# Altium schematic symbol library Schlib2.SchLib: 92 symbols (part 3 of 4)
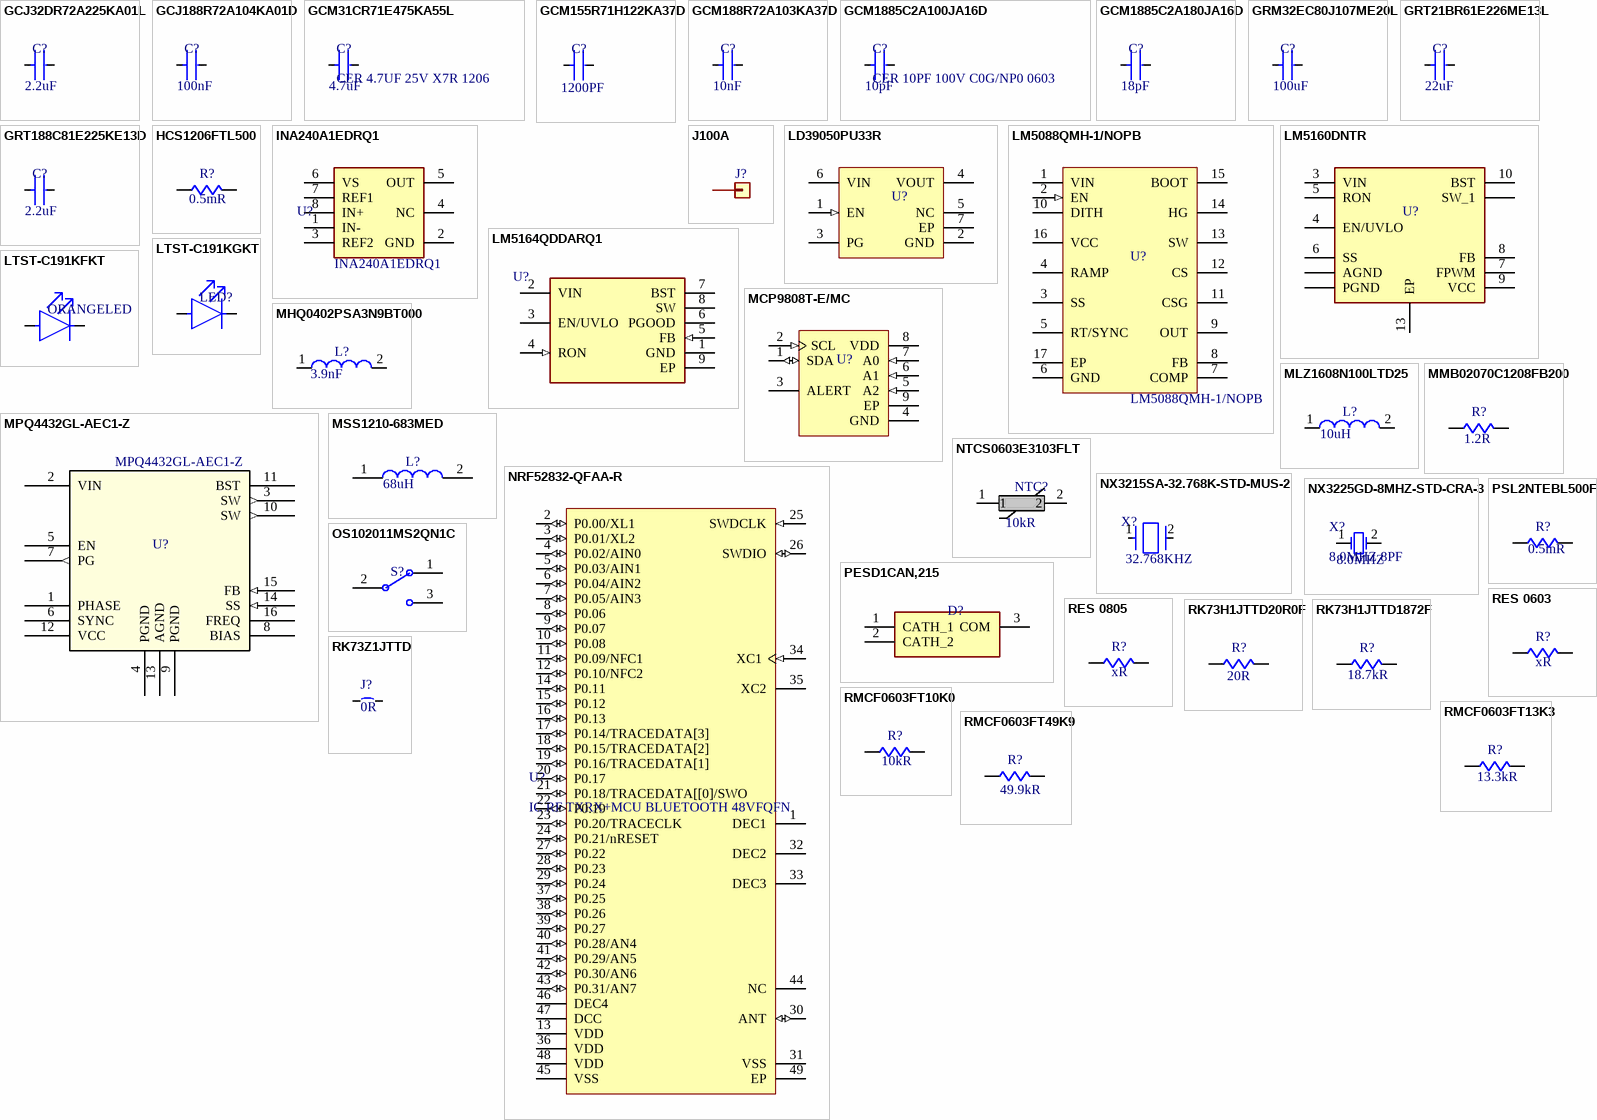
[diagram p4: symbols GCJ32DR72A225KA01L to RMCF0603FT49K9]

## LTST-C191KGKT
designator LED?, comment LED GREEN CLEAR SMD  (value not drawn)
Manufacturer: Vishay Lite-On; Manufacturer Part Number: LTST-C191KGKT; Description: Single Color LED, Ultra Bright Green, Water Clear, 1.1mm; Shape: Rectangular; Lens Style: WATER CLEAR; Forward Current: 30mA; Luminous Intensity-Nom: 35mcd; Channels: 1; Optoelectronic Device Type: SINGLE COLOR LED; Viewing Angle: 130°; Forward Voltage: 2.4V; Reverse Voltage-Max: 5V; Overall Height: 0.55mm; Supplier: Digi-Key; Supplier Part Number: 160-1446-1-ND; RoHS: Yes; Category: Uncategorized; Stock: 1696489; Pricing: 1=0.26, 10=0.141, 100=0.0656, 500=0.0606, 1000=0.04747, 2000=0.04646 (USD); Mounting Technology: Surface Mount; Pins: 2; Color: Green; Color@wavelength: Green; Terminal Finish: Tin; Min Operating Temperature: -55°C; Max Operating Temperature: 85°C; Packaging: Tape and Reel; JESD-609 Code: e3; Size: 1.1mm; Terminal Pitch: 1.5mm; Reach SVHC Compliant: Yes; RoHS Compliant: Yes; ComponentLink1URL: https://datasheet.ciiva.com:443/pdfs/VipMasterIC/IC/LITE/LITE-S-A0003156116/LITE-S-A0003156116-1.pdf?src-supplier=IHS+Markit; ComponentLink1Description: https://datasheet.ciiva.com:443/pdfs/VipMasterIC/IC/LITE/LITE-S-A0003156116/LITE-S-A0003156116-1.pdf?src-supplier=IHS+Markit; ComponentLink2URL: https://datasheet.ciiva.com/2109/ltst-c191kgkt-2109973.pdf?src-supplier=Digi-Key; ComponentLink2Description: https://datasheet.ciiva.com/2109/ltst-c191kgkt-2109973.pdf?src-supplier=Digi-Key
footprint FP-LTST-C191KGKT-MFG
pins: 1 C, 2 A

## MCP9808T-E/MC
designator U?, comment Temperature Sensor Digital, Local -40°C ~ 125°C 12 b 8-DFN (2x3)  (value not drawn)
Board Connector, 9 Contact(s), 2 Row(s), Male, Straight, 0.05 inch Pitch, Surface Mount Terminal, Locking; Manufacturer: Microchip; Manufacturer Part Number: MCP9808T-E/MC; Package Body Material: Plastic; Package Shape/Style: Rectangular; Accuracy-Max (Cel): 1°C; Number of Bits: 16; Operating Current-Max: 200uA; Output Interface Type: 2-Wire; Power Supplies: 3/5V; Sensor Type: TEMPERATURE SENSOR,SWITCH/DIGITAL OUTPUT,SERIAL; Max Supply Voltage: 5.5V; Min Supply Voltage: 2.7V; Body Breadth: 2inch; Body Height: 0.9mm; Body Length or Diameter: 3mm; Supplier: Digi-Key; Supplier Part Number: MCP9808T-E/MCCT-ND; RoHS: Yes; Category: Temperature and Humidity Sensors; Stock: 21735; Pricing: 1=1.4, 25=1.17, 100=1.05 (USD); Mounting Technology: Surface Mount; Pins: 8; Housing Material: Plastic; Terminal Finish: Tin; Min Operating Temperature: -40°C; Max Operating Temperature: 125°C; JESD-609 Code: e3; Termination: Solder; RoHS Compliant: Yes; Reach SVHC Compliant: Yes; ComponentLink1URL: https://datasheet.ciiva.com:443/pdfs/VipMasterIC/IC/MCHP/MCHP-S-A0005985417/MCHP-S-A0005985417-1.pdf?src-supplier=IHS+Markit; ComponentLink1Description: https://datasheet.ciiva.com:443/pdfs/VipMasterIC/IC/MCHP/MCHP-S-A0005985417/MCHP-S-A0005985417-1.pdf?src-supplier=IHS+Markit; ComponentLink2URL: https://datasheet.ciiva.com/15098/getdatasheetpartid-508406-15098545.pdf?src-supplier=Verical; ComponentLink2Description: https://datasheet.ciiva.com/15098/getdatasheetpartid-508406-15098545.pdf?src-supplier=Verical; ComponentLink3URL: https://datasheet.ciiva.com/2002/25095a-2002857.pdf?src-supplier=Digi-Key; ComponentLink3Description: https://datasheet.ciiva.com/2002/25095a-2002857.pdf?src-supplier=Digi-Key; ComponentLink4URL: https://datasheet.ciiva.com/14152/mcp9808-eng-tds-14152155.pdf?src-supplier=Distrelec; ComponentLink4Description: https://datasheet.ciiva.com/14152/mcp9808-eng-tds-14152155.pdf?src-supplier=Distrelec; ComponentLink5URL: https://datasheet.ciiva.com/1514/1522173-1514018.pdf?src-supplier=Element14; ComponentLink5Description: https://datasheet.ciiva.com/1514/1522173-1514018.pdf?src-supplier=Element14; ComponentLink6URL: https://datasheet.ciiva.com:443/pdfs/VipMasterIC/IC/SAMI/SAMI-S-A0006911451/SAMI-S-A0006911451-1.pdf?src-supplier=IHS+Markit; ComponentLink6Description: https://datasheet.ciiva.com:443/pdfs/VipMasterIC/IC/SAMI/SAMI-S-A0006911451/SAMI-S-A0006911451-1.pdf?src-supplier=IHS+Markit; ComponentLink7URL: http://www.farnell.com/datasheets/2570365.pdf?src-supplier=Farnell; ComponentLink7Description: http://www.farnell.com/datasheets/2570365.pdf?src-supplier=Farnell; ComponentLink8URL: http://suddendocs.samtec.com/prints/ftsh-1xx-xx-xxx-dv-xxx-xxx-mkt.pdf?src-supplier=Digi-Key; ComponentLink8Description: http://suddendocs.samtec.com/prints/ftsh-1xx-xx-xxx-dv-xxx-xxx-mkt.pdf?src-supplier=Digi-Key; ComponentLink9URL: http://www.farnell.com/datasheets/2570365.pdf?src-supplier=Element14; ComponentLink9Description: http://www.farnell.com/datasheets/2570365.pdf?src-supplier=Element14; ComponentLink10URL: http://www.farnell.com/datasheets/2570365.pdf?src-supplier=Newark; ComponentLink10Description: http://www.farnell.com/datasheets/2570365.pdf?src-supplier=Newark
footprint MCHP-DFN-MC8_V (SON, 8-Leads, Body 3x2mm, Pitch 0.5mm, Thermal Pad 1.45x1.75mm)
pins: 1 SDA (io) "Serial Data Line", 2 SCL (in) "Serial Clock Line", 3 ALERT (oc) "Temperature Alert Output", 4 GND (power) "Ground", 5 A2 (in) "Slave Address", 6 A1 (in) "Slave Address", 7 A0 (in) "Slave Address", 8 VDD (power) "Power Pin", 9 EP (power) "Exposed Thermal Pad (EP); must be connected to GND"

## MHQ0402PSA3N9BT000
designator L?, comment value 3.9nF  (hidden comment: FIXED IND 3.9NH 200MA 750MOHM SM)
Manufacturer: TDK; Manufacturer Part Number: MHQ0402PSA3N9BT000; Inductor Type: GENERAL PURPOSE INDUCTOR; Supplier: Digi-Key; Supplier Part Number: 445-174653-1-ND; RoHS: Yes; Category: Fixed Inductors; Stock: 16837; Pricing: 1=0.1, 10=0.086, 25=0.0768, 50=0.0652, 100=0.0576, 250=0.05276, 500=0.04798, 1000=0.0403, 2500=0.03454 (USD); Reach SVHC Compliant: Yes; RoHS Compliant: Yes; ComponentLink1URL: https://datasheet.ciiva.com:443/pdfs/VipMasterIC/IC/TDKC/TDKC-S-A0007109881/TDKC-S-A0007109881-1.pdf?src-supplier=IHS+Markit; ComponentLink1Description: https://datasheet.ciiva.com:443/pdfs/VipMasterIC/IC/TDKC/TDKC-S-A0007109881/TDKC-S-A0007109881-1.pdf?src-supplier=IHS+Markit; ComponentLink2URL: https://product.tdk.com/info/en/catalog/datasheets/inductor_commercial_high-frequency_mhq0402psa_en.pdf?src-supplier=Digi-Key; ComponentLink2Description: https://product.tdk.com/info/en/catalog/datasheets/inductor_commercial_high-frequency_mhq0402psa_en.pdf?src-supplier=Digi-Key
pins: 1, 2

## MLZ1608N100LTD25
designator L?, comment value 10uH  (hidden comment: FIXED IND 10UH 300MA 600MOHM SMD)
Manufacturer: TDK; Manufacturer Part Number: MLZ1608N100LTD25; Inductor Type: GENERAL PURPOSE INDUCTOR; Supplier: Digi-Key; Supplier Part Number: 445-17067-1-ND; RoHS: Yes; Category: Fixed Inductors; Stock: 118754; Pricing: 1=0.2, 10=0.177, 25=0.1576, 50=0.134, 100=0.1182, 250=0.10832, 500=0.09848, 1000=0.08272 (USD); Reach SVHC Compliant: Yes; RoHS Compliant: Yes; ComponentLink1URL: https://datasheet.ciiva.com:443/pdfs/VipMasterIC/IC/TDKC/TDKC-S-A0007713921/TDKC-S-A0007713921-1.pdf?src-supplier=IHS+Markit; ComponentLink1Description: https://datasheet.ciiva.com:443/pdfs/VipMasterIC/IC/TDKC/TDKC-S-A0007713921/TDKC-S-A0007713921-1.pdf?src-supplier=IHS+Markit; ComponentLink2URL: http://www.mouser.com/ds/2/400/nductor_commercial_decoupling_mlz1608_en-837720.pdf?src-supplier=Mouser; ComponentLink2Description: http://www.mouser.com/ds/2/400/nductor_commercial_decoupling_mlz1608_en-837720.pdf?src-supplier=Mouser; ComponentLink3URL: https://product.tdk.com/info/en/catalog/datasheets/inductor_automotive_decoupling_mlz1608_en.pdf?src-supplier=Digi-Key; ComponentLink3Description: https://product.tdk.com/info/en/catalog/datasheets/inductor_automotive_decoupling_mlz1608_en.pdf?src-supplier=Digi-Key; ComponentLink4URL: http://product.tdk.com/inductor/ind/en/documents/inductor_automotive_decoupling_mlz_en.pdf?src-supplier=Digi-Key; ComponentLink4Description: http://product.tdk.com/inductor/ind/en/documents/inductor_automotive_decoupling_mlz_en.pdf?src-supplier=Digi-Key
footprint FP-MLZ1608-IPC_C
pins: 1, 2

## MMB02070C1208FB200
designator R?, comment value 1.2R  (hidden comment: RES SMD 1.2 OHM 1% 1W 0207)
Manufacturer: Vishay; Manufacturer Part Number: MMB02070C1208FB200; Power: 400mW; Rated Temperature: 70°C; Temperature Coefficient: 50ppm/°C; Working Voltage: 300V; Package Diameter: 2.2mm; Package Length: 5.8mm; Reference Standard: AEC-Q200; Supplier: Digi-Key; Supplier Part Number: 749-MMB02070C1208FB200CT-ND; RoHS: Yes; Category: Chip SMD Resistors; Stock: 3580; Pricing: 1=0.57, 10=0.41, 100=0.2129, 500=0.14742, 1000=0.11466 (USD); Mounting Technology: Surface Mount; Pins: 2; Package Shape: Cylindrical; Case/Package: 2309; Terminal Finish: Nickel; Min Operating Temperature: -55°C; Max Operating Temperature: 125°C; Tolerance: 1%; JESD-609 Code: e3; Resistor Type: FIXED RESISTOR; Construction: Cylindrical; Package Style: MELFMeter; Packaging: Tape and Reel; Technology: THIN FILM; Termination: Wraparound; Reach SVHC Compliant: Yes; RoHS Compliant: Yes; ComponentLink1URL: https://datasheet.ciiva.com:443/pdfs/VipMasterIC/IC/VISH/VISH-S-A0004853152/VISH-S-A0004853152-1.pdf?src-supplier=IHS+Markit; ComponentLink1Description: https://datasheet.ciiva.com:443/pdfs/VipMasterIC/IC/VISH/VISH-S-A0004853152/VISH-S-A0004853152-1.pdf?src-supplier=IHS+Markit; ComponentLink2URL: https://datasheet.ciiva.com/11811/0900766b80d81c43-11811863.pdf?src-supplier=Rs; ComponentLink2Description: https://datasheet.ciiva.com/11811/0900766b80d81c43-11811863.pdf?src-supplier=Rs; ComponentLink3URL: https://datasheet.ciiva.com/26316/nbmma0204-mmb0207-e-26316346.pdf?src-supplier=Distrelec; ComponentLink3Description: https://datasheet.ciiva.com/26316/nbmma0204-mmb0207-e-26316346.pdf?src-supplier=Distrelec; ComponentLink4URL: https://datasheet.ciiva.com/7861/1696496-7861166.pdf?src-supplier=Element14; ComponentLink4Description: https://datasheet.ciiva.com/7861/1696496-7861166.pdf?src-supplier=Element14; ComponentLink5URL: https://datasheet.ciiva.com/7861/1696496-7861167.pdf?src-supplier=Element14; ComponentLink5Description: https://datasheet.ciiva.com/7861/1696496-7861167.pdf?src-supplier=Element14
footprint MMB0207_VIS-M
pins: 1, 2

## MPQ4432GL-AEC1-Z
designator U?, comment Manufacturer Part Number: MPQ4432GL-AEC1-Z  (hidden comment: IC REG 36V 2.2A LOW AUTO GRADE)
Switching Regulator IC REG 36V 2.2A LOW AUTO GRADE; Manufacturer: Monolithic Power Systems; Supplier: Digi-Key; Supplier Part Number: 1589-1796-1-ND; RoHS: Yes; Category: Voltage Regulators - Switching; Stock: 15000; Pricing: 1=4.19, 10=3.759, 25=3.5536, 100=3.0798, 250=2.92188, 500=2.6218, 1000=2.235 (USD); Throw Configuration: SWITCHING REGULATOR; Reach SVHC Compliant: Yes; RoHS Compliant: Yes; ComponentLink1URL: https://datasheet.ciiva.com:443/pdfs/VipMasterIC/IC/MONO/MONO-S-A0008952065/MONO-S-A0008952065-1.pdf?src-supplier=IHS+Markit; ComponentLink1Description: https://datasheet.ciiva.com:443/pdfs/VipMasterIC/IC/MONO/MONO-S-A0008952065/MONO-S-A0008952065-1.pdf?src-supplier=IHS+Markit; ComponentLink2URL: https://www.monolithicpower.com/pub/media/document/m/p/mpq4432_r1.01.pdf?src-supplier=Digi-Key; ComponentLink2Description: https://www.monolithicpower.com/pub/media/document/m/p/mpq4432_r1.01.pdf?src-supplier=Digi-Key
footprint QFN-3x4_MPQ4432_MNP
pins: 1 PHASE, 2 VIN (power), 3 SW (out), 4 PGND (power), 5 EN, 6 SYNC, 7 PG (out), 8 BIAS (power), 9 PGND (power), 10 SW (out), 11 BST (power), 12 VCC (power), 13 AGND (power), 14 SS (in), 15 FB (in), 16 FREQ

## MSS1210-683MED
designator L?, comment Inductance-Nom (L): 68uH  (hidden comment: 68uH Shld 20% 4.3A 84mOhms AECQ2)
Manufacturer: Coilcraft; Manufacturer Part Number: MSS1210-683MED; Manufacturer Series: MSS1210; Core Material: Ferrite; Case/Size Code: 4848; DC Resistance (DCR): 74mR; Inductor Type: GENERAL PURPOSE INDUCTOR; Max Current Rating: 4.9A; Self Resonant Frequency: 4.5MHz; Shielding: Shielded; Package Height: 10mm; Package Length: 12.3mm; Supplier: Mouser; Supplier Part Number: 994-MSS1210-683MED; RoHS: Yes; Category: Fixed Inductors; Stock: 12047; Pricing: 1=3.74, 10=3.74, 50=3.74, 100=3.74, 1000=2.63, 10000=2.63 (USD); Terminal Finish: Nickel; Min Operating Temperature: -40°C; Max Operating Temperature: 85°C; Tolerance: 20%; JESD-609 Code: e3; Construction: Shielded; Package Style: SMTMeter; Packaging: Tape and Reel; Series: MSS1210; Package Width: 12.3mm; Reach SVHC Compliant: Yes; RoHS Compliant: Yes; ComponentLink1URL: https://datasheet.ciiva.com:443/pdfs/VipMasterIC/IC/COLC/COLC-S-A0002292137/COLC-S-A0002292137-1.pdf?src-supplier=IHS+Markit; ComponentLink1Description: https://datasheet.ciiva.com:443/pdfs/VipMasterIC/IC/COLC/COLC-S-A0002292137/COLC-S-A0002292137-1.pdf?src-supplier=IHS+Markit; ComponentLink2URL: https://datasheet.ciiva.com/13283/mss1210-270677-13283815.pdf?src-supplier=Mouser; ComponentLink2Description: https://datasheet.ciiva.com/13283/mss1210-270677-13283815.pdf?src-supplier=Mouser; ComponentLink3URL: https://datasheet.ciiva.com/36858/1681953-36858617.pdf?src-supplier=Element14; ComponentLink3Description: https://datasheet.ciiva.com/36858/1681953-36858617.pdf?src-supplier=Element14; ComponentLink4URL: https://datasheet.ciiva.com/36858/1681953-36858621.pdf?src-supplier=Element14; ComponentLink4Description: https://datasheet.ciiva.com/36858/1681953-36858621.pdf?src-supplier=Element14
pins: 1, 2

## NRF52832-QFAA-R
designator U?, comment IC RF TXRX+MCU BLUETOOTH 48VFQFN
Manufacturer: Nordic Semiconductor; Manufacturer Part Number: NRF52832-QFAA-R; Channels: 1; Nominal Supply Voltage: 3V; Telecom IC Type: TELECOM CIRCUIT; Supplier: Digi-Key; Supplier Part Number: 4823-NRF52832-QFAA-RCT-ND; RoHS: Yes; Category: RF Receivers, Transceivers; Stock: 373904; Pricing: 1=5.81, 10=5.189, 25=4.67, 100=4.2547, 250=3.83964, 500=3.4453, 1000=2.90567 (USD); Case/Package: HVQCCN; Pins: 48; Package Shape: Square; Min Operating Temperature: -40°C; Max Operating Temperature: 85°C; JESD-30 Code: S-XQCC-N48; Package Style: CHIP CARRIER, HEAT SINK/SLUG, VERY THIN PROFILEMeter; Surface Mount: Yes; Terminal Form: No Lead; Terminal Position: QUAD; Length: 6mm; Width: 6mm; Height - Seated (Max): 0.95mm; Terminal Pitch: 0.4mm; Temperature Grade: INDUSTRIAL; Reach SVHC Compliant: Yes; RoHS Compliant: Yes; ComponentLink1URL: https://datasheet.ciiva.com:443/pdfs/VipMasterIC/IC/NRSA/NRSA-S-A0002414264/NRSA-S-A0002414264-1.pdf?src-supplier=IHS+Markit; ComponentLink1Description: https://datasheet.ciiva.com:443/pdfs/VipMasterIC/IC/NRSA/NRSA-S-A0002414264/NRSA-S-A0002414264-1.pdf?src-supplier=IHS+Markit; ComponentLink2URL: http://www.mouser.com/ds/2/297/nRF52832%20Product%20Brief%20v1.2-890472.pdf?src-supplier=Mouser; ComponentLink2Description: http://www.mouser.com/ds/2/297/nRF52832%20Product%20Brief%20v1.2-890472.pdf?src-supplier=Mouser; ComponentLink3URL: http://infocenter.nordicsemi.com/pdf/nRF52832_PB_v1.7.pdf?src-supplier=Digi-Key; ComponentLink3Description: http://infocenter.nordicsemi.com/pdf/nRF52832_PB_v1.7.pdf?src-supplier=Digi-Key; ComponentLink4URL: http://infocenter.nordicsemi.com/pdf/nRF52832_PS_v1.4.pdf?src-supplier=Digi-Key; ComponentLink4Description: http://infocenter.nordicsemi.com/pdf/nRF52832_PS_v1.4.pdf?src-supplier=Digi-Key
pins: 1 DEC1 "Power supply decoupling.", 2 P0.00/XL1 (io), 3 P0.01/XL2 (io), 4 P0.02/AIN0 (io), 5 P0.03/AIN1 (io), 6 P0.04/AIN2 (io), 7 P0.05/AIN3 (io), 8 P0.06 (io) "General purpose I/O pin.", 9 P0.07 (io) "General purpose I/O pin.", 10 P0.08 (io) "General purpose I/O pin.", 11 P0.09/NFC1 (io), 12 P0.10/NFC2 (io), 13 VDD (power) "Power-supply pin.", 14 P0.11 (io) "General purpose I/O pin.", 15 P0.12 (io) "General purpose I/O pin.", 16 P0.13 (io) "General purpose I/O pin.", 17 P0.14/TRACEDATA[3] (io), 18 P0.15/TRACEDATA[2] (io), 19 P0.16/TRACEDATA[1] (io), 20 P0.17 (io) "General purpose I/O pin", 21 P0.18/TRACEDATA[[0]/SWO (io), 22 P0.19 (io) "General purpose I/O pin", 23 P0.20/TRACECLK (io), 24 P0.21/nRESET (io), 25 SWDCLK (in) "Serial Wire Debug clock input for debug and programming.", 26 SWDIO (io) "Serial Wire Debug I/O for debug and programming.", 27 P0.22 (io) "General purpose I/O pin", 28 P0.23 (io) "General purpose I/O pin", 29 P0.24 (io) "General purpose I/O pin", 30 ANT (io) "Single-ended radio antenna connection.", 31 VSS (power) "Ground pin (Radio supply).", 32 DEC2 "1V3 regulator supply decoupling", 33 DEC3 "Power supply decoupling.", 34 XC1 (in) "Connection for 32 MHz crystal.", 35 XC2 "Connection for 32 MHz crystal.", 36 VDD (power) "Power-supply pin.", 37 P0.25 (io) "General purpose I/O pin", 38 P0.26 (io) "General purpose I/O pin", 39 P0.27 (io) "General purpose I/O pin", 40 P0.28/AN4 (io), 41 P0.29/AN5 (io), 42 P0.30/AN6 (io), 43 P0.31/AN7 (io), 44 NC "No connect pin. Leave unconnected.", 45 VSS (power) "Ground Pin.", 46 DEC4 "1V3 regulator supply decoupling.", 47 DCC (power) "DC/DC regulator output pin", 48 VDD (power) "Power-supply pin.", 49 EP (power) "Ground pad."

## NTCS0603E3103FLT
designator NTC?, comment value 10kR  (hidden comment: NTC Thermistor 10k 0603 (1608 Metric))
Manufacturer: Vishay BCcomponents; Manufacturer Part Number: NTCS0603E3103FLT; Tolerance: 1%; Power: 125mW; Rated Temperature: 25°C; Thermistor Application: OVERLOAD PROTECTION; Supplier: Digi-Key; Supplier Part Number: BC2737CT-ND; RoHS: No; Category: Thermistors; Stock: 145210; Pricing: 1=1.08, 5=1.024, 10=0.892, 25=0.7832, 50=0.6506, 100=0.5543, 500=0.48198, 1000=0.42173 (USD); Mounting Technology: Surface Mount; Pins: 2; Package Shape: Rectangular; Terminal Finish: Tin; Min Operating Temperature: -40°C; Max Operating Temperature: 150°C; JESD-609 Code: e3; Packaging: Tape and Reel; Termination: Wraparound; Resistor Type: NTC THERMISTOR; Manufacturer Series: NTCS0603E3103FLT; Terminal Placement: Dual Ended; ComponentLink1URL: https://datasheet.ciiva.com:443/pdfs/VipMasterIC/IC/BEYS/BEYSS04817/BEYSS04817-1.pdf?src-supplier=IHS+Markit; ComponentLink1Description: https://datasheet.ciiva.com:443/pdfs/VipMasterIC/IC/BEYS/BEYSS04817/BEYSS04817-1.pdf?src-supplier=IHS+Markit; ComponentLink2URL: https://datasheet.ciiva.com/2848/ntcs0603-2848830.pdf?src-supplier=Digi-Key; ComponentLink2Description: https://datasheet.ciiva.com/2848/ntcs0603-2848830.pdf?src-supplier=Digi-Key; ComponentLink3URL: https://datasheet.ciiva.com/2848/ntcs0603-2848831.pdf?src-supplier=Digi-Key; ComponentLink3Description: https://datasheet.ciiva.com/2848/ntcs0603-2848831.pdf?src-supplier=Digi-Key; ComponentLink4URL: https://datasheet.ciiva.com/2848/ntcs0603-2848829.pdf?src-supplier=Digi-Key; ComponentLink4Description: https://datasheet.ciiva.com/2848/ntcs0603-2848829.pdf?src-supplier=Digi-Key
footprint NTCS0603_VIS
pins: 1, 2

## NX3215SA-32.768K-STD-MUS-2
designator X?, comment Operating Frequency-Nom: 32.768KHZ  (hidden comment: 32.7680KHZ 12.5PF SMD)
Manufacturer: NDK; Manufacturer Part Number: NX3215SA-32.768K-STD-MUS-2; Crystal/Resonator Type: PARALLEL - FUNDAMENTAL; Drive Level: 0.1uW; Frequency Stability: 0.04%; Frequency Tolerance: 20ppm; ESR: 80kR; Supplier: Digi-Key; Supplier Part Number: 644-1159-1-ND; RoHS: Yes; Category: Crystals; Stock: 215942; Pricing: 1=0.72, 10=0.601, 50=0.5408, 100=0.4808, 500=0.45672, 1000=0.38461 (USD); Mounting Technology: Surface Mount; Min Operating Temperature: -40°C; Max Operating Temperature: 125°C; Load Capacitance: 12.5pF; Reach SVHC Compliant: Yes; RoHS Compliant: Yes; ComponentLink1URL: https://datasheet.ciiva.com:443/pdfs/VipMasterIC/IC/NDKC/NDKC-S-A0010064642/NDKC-S-A0010064682-1.pdf?src-supplier=IHS+Markit; ComponentLink1Description: https://datasheet.ciiva.com:443/pdfs/VipMasterIC/IC/NDKC/NDKC-S-A0010064642/NDKC-S-A0010064682-1.pdf?src-supplier=IHS+Markit; ComponentLink2URL: https://datasheet.ciiva.com/858/c-nx3215sa-std-mus-2-e-858632.pdf?src-supplier=Digi-Key; ComponentLink2Description: https://datasheet.ciiva.com/858/c-nx3215sa-std-mus-2-e-858632.pdf?src-supplier=Digi-Key
footprint FP-NX3215SA-MFG
pins: 1, 2

## NX3225GD-8MHZ-STD-CRA-3
designator X?, comment 8.0MHZ 8PF  value 8.0MHZ
Manufacturer: NDK; Manufacturer Part Number: NX3225GD-8MHZ-STD-CRA-3; Supplier: Digi-Key; Supplier Part Number: 644-1178-1-ND; RoHS: Yes; Category: Crystals; Stock: 46750; Pricing: 1=0.87, 10=0.767, 50=0.7166, 100=0.6333, 500=0.59994, 1000=0.49995 (USD); ComponentLink1URL: https://datasheet.ciiva.com/6732/c-nx3225gd-std-cra-3-e-6732944.pdf?src-supplier=Digi-Key; ComponentLink1Description: https://datasheet.ciiva.com/6732/c-nx3225gd-std-cra-3-e-6732944.pdf?src-supplier=Digi-Key
footprint NDK-NX3225GD-8MHZ-STD-CRA-3_V (SMD, 2-Leads, Body 3.2x2.5mm)
pins: 1, 2

## OS102011MS2QN1C
designator S?, comment SLIDE SWITCH SPDT T/H ON-ON BBM  (value not drawn)
Manufacturer: ITT C&K; Manufacturer Part Number: OS102011MS2QN1C; Actuator Material: Polyoxymethylene; Actuator Color: Black; Center Contact Plating: Silver; End Contact Material: Copper Alloy; Contact Current(DC)-Max: 100mA; Contact DC Max Rating R Load: .1A@12VDC; Contact Resistance: 0.02mR; Contact Voltage(DC)-Max: 12V; Dielectric Withstand Volts: 500VACV; Electrical Life: 10000Cycles; Insulation Resistance: 100MR; Number of Positions: 2; PCB Hole Count: 5; Switch Action: LATCHED; Actuator Length: 0.157inch; Body Breadth: 4.3inch; Body Height: 4.7mm; Body Length or Diameter: 8.6mm; Supplier: Digi-Key; Supplier Part Number: CKN12284-ND; RoHS: Yes; Category: Slide Switches; Stock: 76323; Pricing: 1=0.61, 10=0.586, 25=0.5644, 100=0.4886, 250=0.44516, 500=0.41258, 1000=0.36916, 2500=0.34961, 5000=0.32355 (USD); Mounting Technology: Through Hole; Contact Material: Brass; Insulation Material: Phenolic; Terminal Finish: Gold; Terminal Material: Brass; Min Operating Temperature: -10°C; Max Operating Temperature: 70°C; JESD-609 Code: e4; Actuator Type: SLIDE; Contact Function: On-On; Packaging: Bulk; Switch Function: SPDT; Switch Type: Slide Switch; Termination: Solder; Reach SVHC Compliant: Yes; RoHS Compliant: Yes; ComponentLink1URL: https://datasheet.ciiva.com:443/pdfs/VipMasterIC/IC/CKCI/CKCI-S-A0002822563/CKCI-S-A0002822563-1.pdf?src-supplier=IHS+Markit; ComponentLink1Description: https://datasheet.ciiva.com:443/pdfs/VipMasterIC/IC/CKCI/CKCI-S-A0002822563/CKCI-S-A0002822563-1.pdf?src-supplier=IHS+Markit; ComponentLink2URL: https://datasheet.ciiva.com/46420/1839844-46420506.pdf?src-supplier=Element14; ComponentLink2Description: https://datasheet.ciiva.com/46420/1839844-46420506.pdf?src-supplier=Element14; ComponentLink3URL: https://datasheet.ciiva.com/18207/getdatasheetpartid-332577-18207383.pdf?src-supplier=Verical; ComponentLink3Description: https://datasheet.ciiva.com/18207/getdatasheetpartid-332577-18207383.pdf?src-supplier=Verical; ComponentLink4URL: https://datasheet.ciiva.com/8626/os-19jan15-8626502.pdf?src-supplier=Avnet; ComponentLink4Description: https://datasheet.ciiva.com/8626/os-19jan15-8626502.pdf?src-supplier=Avnet
footprint OS102011MS2QN1C
pins: 1 NO, 2 COM, 3 NC

## PESD1CAN,215
designator D?, comment TVS DIODE 24VWM 70VC TO236AB  (value not drawn)
Trans Voltage Suppressor Diode, 200W, 24V V(RWM), Bidirectional, 2 Element, Silicon, TO-236AB; Manufacturer: Nexperia; Manufacturer Part Number: PESD1CAN,215; Package Body Material: Plastic; Max Breakdown Voltage: 30.3V; Min Breakdown Voltage: 25.4V; Number of Elements: 2; Time @ Peak Reflow Temperature-Max (s): 40s; Reference Standard: IEC-60134; Qualification Status: Not Qualified; Supplier: Digi-Key; Supplier Part Number: 1727-3817-1-ND; RoHS: Yes; Category: ESD and Circuit Protection ICs; Stock: 102526; Pricing: 1=0.45, 10=0.366, 100=0.2492, 500=0.18688, 1000=0.14016 (USD); Pins: 3; Diode Element Material: SILICON; Package Shape: Rectangular; Terminal Finish: Tin; Max Operating Temperature: 150°C; Polarity: Bidirectional; Diode Type: TRANS VOLTAGE SUPPRESSOR; JESD-30 Code: R-PDSO-G3; Non-rep Peak Rev Power Dis-Max: 200W; Package Style: SMALL OUTLINEMeter; Rep Pk Reverse Voltage-Max: 24V; Surface Mount: Yes; Technology: AVALANCHE; Terminal Form: Gull Wing; Terminal Position: DUAL; JESD-609 Code: e3; Moisture Sensitivity Level: 1; Peak Reflow Temperature (Cel): 260°C; Reach SVHC Compliant: Yes; RoHS Compliant: Yes; JEDEC-95 Code: TO-236AB; ComponentLink1URL: https://datasheet.ciiva.com:443/pdfs/VipMasterIC/IC/NEXP/NEXP-S-A0005722386/NEXP-S-A0005722386-1.pdf?src-supplier=IHS+Markit; ComponentLink1Description: https://datasheet.ciiva.com:443/pdfs/VipMasterIC/IC/NEXP/NEXP-S-A0005722386/NEXP-S-A0005722386-1.pdf?src-supplier=IHS+Markit; ComponentLink2URL: http://www.farnell.com/datasheets/109497.pdf?src-supplier=Farnell; ComponentLink2Description: http://www.farnell.com/datasheets/109497.pdf?src-supplier=Farnell; ComponentLink3URL: https://assets.nexperia.com/documents/data-sheet/PESD1CAN.pdf?src-supplier=Digi-Key; ComponentLink3Description: https://assets.nexperia.com/documents/data-sheet/PESD1CAN.pdf?src-supplier=Digi-Key; ComponentLink4URL: http://www.farnell.com/datasheets/109497.pdf?src-supplier=Newark; ComponentLink4Description: http://www.farnell.com/datasheets/109497.pdf?src-supplier=Newark
footprint SOT95P230X110-3N
pins: 1 CATH_1, 2 CATH_2, 3 COM

## PSL2NTEBL500F
designator R?, comment value 0.5mR  (hidden comment: RES 500 UOHM 1% 8W NONSTANDARD)
Manufacturer: KOA Speer; Manufacturer Part Number: PSL2NTEBL500F; Description: Fixed Resistor, Metal Strip, 8W, 0.0005ohm, 1% +/-Tol, 175ppm/Cel, Surface Mount, 2512; Rated Temperature: 75°C; Temperature Coefficient: 115ppm/°C; Package Height: 1.12mm; Package Length: 6.3mm; Package Width: 3.15mm; Reference Standard: AEC-Q200; Supplier: Digi-Key; Supplier Part Number: 2019-PSL2NTEBL500FCT-ND; RoHS: Yes; Category: Chip SMD Resistors; Stock: 28086; Pricing: 1=1.59, 10=1.409, 25=1.2952, 50=1.1816, 100=1.0226, 250=0.86356, 500=0.7272, 1000=0.60448 (USD); Mounting Technology: Surface Mount; Pins: 2; Case/Package: 2512; Min Operating Temperature: -65°C; Max Operating Temperature: 175°C; Tolerance: 1%; Resistor Type: FIXED RESISTOR; Construction: Rectangular; Package Style: SMTMeter; Packaging: Tape and Reel; Power: 8W; Termination: Gull Wing; Reach SVHC Compliant: Yes; RoHS Compliant: Yes; ComponentLink1URL: https://datasheet.ciiva.com:443/pdfs/VipMasterIC/IC/KOAS/KOAS-S-A0009586241/KOAS-S-A0009586241-1.pdf?src-supplier=IHS+Markit; ComponentLink1Description: https://datasheet.ciiva.com:443/pdfs/VipMasterIC/IC/KOAS/KOAS-S-A0009586241/KOAS-S-A0009586241-1.pdf?src-supplier=IHS+Markit
footprint FP-PSL2NTEBL500F-MFG
pins: 1, 2

## RES 0603
designator R?, comment value xR  (hidden comment: x)
footprint FP-RMCF0603-IPC_C
pins: 1, 2

## RES 0805
designator R?, comment value xR  (hidden comment: x)
footprint FP-CRCW0805-e3-IPC_C
pins: 1, 2

## RK73H1JTTD20R0F
designator R?, comment value 20R  (hidden comment: RES 20 OHM 1% 1/8W 0603)
Manufacturer: KOA Speer; Manufacturer Part Number: RK73H1JTTD20R0F; Additional Feature: PRECISION; Power: 125mW; Rated Temperature: 70°C; Temperature Coefficient: 100ppm/°C; Working Voltage: 75V; Package Height: 0.45mm; Package Length: 1.6mm; Package Width: 0.8mm; Reference Standard: AEC-Q200; Supplier: Digi-Key; Supplier Part Number: 2019-RK73H1JTTD20R0FCT-ND; RoHS: Yes; Category: Chip SMD Resistors; Stock: 455564; Pricing: 1=0.1, 10=0.025, 50=0.0136, 100=0.01, 500=0.0061, 1000=0.0045 (USD); Mounting Technology: Surface Mount; Pins: 2; Case/Package: 0603; Terminal Finish: Nickel; Min Operating Temperature: -55°C; Max Operating Temperature: 155°C; Tolerance: 1%; JESD-609 Code: e3; Resistor Type: FIXED RESISTOR; Construction: Rectangular; Package Style: SMTMeter; Packaging: Tape and Reel; Technology: METAL GLAZE/THICK FILM; Termination: Wraparound; Reach SVHC Compliant: Yes; RoHS Compliant: Yes; ComponentLink1URL: https://datasheet.ciiva.com:443/pdfs/VipMasterIC/IC/KOAS/KOAS-S-A0009586304/KOAS-S-A0009586304-1.pdf?src-supplier=IHS+Markit; ComponentLink1Description: https://datasheet.ciiva.com:443/pdfs/VipMasterIC/IC/KOAS/KOAS-S-A0009586304/KOAS-S-A0009586304-1.pdf?src-supplier=IHS+Markit; ComponentLink2URL: https://datasheet.ciiva.com/7773/549017-7773375.pdf?src-supplier=Element14; ComponentLink2Description: https://datasheet.ciiva.com/7773/549017-7773375.pdf?src-supplier=Element14; ComponentLink3URL: https://datasheet.ciiva.com/5556/rk73h-5556328.pdf?src-supplier=Mouser; ComponentLink3Description: https://datasheet.ciiva.com/5556/rk73h-5556328.pdf?src-supplier=Mouser; ComponentLink4URL: https://datasheet.ciiva.com/15159/getdatasheetpartid-68790-15159687.pdf?src-supplier=Verical; ComponentLink4Description: https://datasheet.ciiva.com/15159/getdatasheetpartid-68790-15159687.pdf?src-supplier=Verical
footprint FP-RK73Z1J-IPC_C
pins: 1, 2

## RK73H1JTTD1872F
designator R?, comment value 18.7kR  (hidden comment: RES 18.7K OHM 1% 1/10W 0603)
Manufacturer: KOA Speer; Manufacturer Part Number: RK73H1JTTD1872F; Additional Feature: PRECISION; Power: 100mW; Rated Temperature: 70°C; Temperature Coefficient: 100ppm/°C; Working Voltage: 75V; Package Height: 0.45mm; Package Length: 1.6mm; Package Width: 0.8mm; Reference Standard: AEC-Q200; Supplier: Digi-Key; Supplier Part Number: 2019-RK73H1JTTD1872FCT-ND; RoHS: Yes; Category: Chip SMD Resistors; Stock: 62447; Pricing: 1=0.1, 10=0.025, 50=0.0136, 100=0.01, 500=0.0061, 1000=0.0045 (USD); Mounting Technology: Surface Mount; Pins: 2; Case/Package: 0603; Terminal Finish: Nickel; Min Operating Temperature: -55°C; Max Operating Temperature: 155°C; Tolerance: 1%; JESD-609 Code: e3; Resistor Type: FIXED RESISTOR; Construction: Rectangular; Package Style: SMTMeter; Packaging: Tape and Reel; Technology: METAL GLAZE/THICK FILM; Termination: Wraparound; Reach SVHC Compliant: Yes; RoHS Compliant: Yes; ComponentLink1URL: https://datasheet.ciiva.com:443/pdfs/VipMasterIC/IC/KOAS/KOAS-S-A0009586304/KOAS-S-A0009586304-1.pdf?src-supplier=IHS+Markit; ComponentLink1Description: https://datasheet.ciiva.com:443/pdfs/VipMasterIC/IC/KOAS/KOAS-S-A0009586304/KOAS-S-A0009586304-1.pdf?src-supplier=IHS+Markit; ComponentLink2URL: https://datasheet.ciiva.com/3882/39733851s9852373n5146-3882825.pdf?src-supplier=Arrow+Electronics; ComponentLink2Description: https://datasheet.ciiva.com/3882/39733851s9852373n5146-3882825.pdf?src-supplier=Arrow+Electronics; ComponentLink3URL: https://datasheet.ciiva.com/5557/rk73h-5557260.pdf?src-supplier=Mouser; ComponentLink3Description: https://datasheet.ciiva.com/5557/rk73h-5557260.pdf?src-supplier=Mouser
footprint FP-RMCF0603-IPC_C
pins: 1, 2

## RK73Z1JTTD
designator J?, comment value 0R  (hidden comment: RES 0 OHM JUMPER 0603)
Manufacturer: KOA Speer; Manufacturer Part Number: RK73Z1JTTD; Rated Temperature: 70°C; Package Height: 0.45mm; Package Length: 1.6mm; Package Width: 0.8mm; Reference Standard: AEC-Q200; Supplier: Digi-Key; Supplier Part Number: 2019-RK73Z1JTTDCT-ND; RoHS: Yes; Category: Chip SMD Resistors; Stock: 8562065; Pricing: 1=0.1, 10=0.016, 50=0.0088, 100=0.0065, 500=0.00396, 1000=0.00292 (USD); Mounting Technology: Surface Mount; Pins: 2; Case/Package: 0603; Terminal Finish: Nickel; Min Operating Temperature: -55°C; Max Operating Temperature: 155°C; JESD-609 Code: e3; Resistor Type: FIXED RESISTOR; Construction: Rectangular; Package Style: SMTMeter; Packaging: Tape and Reel; Termination: Wraparound; Reach SVHC Compliant: Yes; RoHS Compliant: Yes; ComponentLink1URL: https://datasheet.ciiva.com:443/pdfs/VipMasterIC/IC/KOAS/KOAS-S-A0009586251/KOAS-S-A0009586308-1.pdf?src-supplier=IHS+Markit; ComponentLink1Description: https://datasheet.ciiva.com:443/pdfs/VipMasterIC/IC/KOAS/KOAS-S-A0009586251/KOAS-S-A0009586308-1.pdf?src-supplier=IHS+Markit; ComponentLink2URL: https://datasheet.ciiva.com/7816/549012-7816884.pdf?src-supplier=Element14; ComponentLink2Description: https://datasheet.ciiva.com/7816/549012-7816884.pdf?src-supplier=Element14; ComponentLink3URL: https://datasheet.ciiva.com/26914/getdatasheetpartid-123499-26914653.pdf?src-supplier=Verical; ComponentLink3Description: https://datasheet.ciiva.com/26914/getdatasheetpartid-123499-26914653.pdf?src-supplier=Verical
footprint FP-RK73Z1J-IPC_C
pins: 1, 2

## RMCF0603FT10K0
designator R?, comment value 10kR  (hidden comment: RES 10K OHM 1% 1/10W 0603)
Manufacturer: Stackpole Electronics; Manufacturer Part Number: RMCF0603FT10K0; Power: 100mW; Rated Temperature: 70°C; Temperature Coefficient: 100ppm/°C; Working Voltage: 75V; Package Height: 0.45mm; Package Length: 1.55mm; Package Width: 0.8mm; Reference Standard: AEC-Q200; Supplier: Digi-Key; Supplier Part Number: RMCF0603FT10K0CT-ND; RoHS: Yes; Category: Chip SMD Resistors; Stock: 10390822; Pricing: 1=0.1, 10=0.015, 50=0.009, 100=0.0075, 500=0.00498, 1000=0.00425 (USD); Mounting Technology: Surface Mount; Pins: 2; Package Shape: Rectangular; Case/Package: 0603; Terminal Finish: Nickel; Min Operating Temperature: -55°C; Max Operating Temperature: 155°C; Tolerance: 1%; JESD-609 Code: e3; Resistor Type: FIXED RESISTOR; Construction: Rectangular; Package Style: SMTMeter; Packaging: Tape and Reel; Technology: METAL GLAZE/THICK FILM; Termination: Wraparound; Reach SVHC Compliant: Yes; RoHS Compliant: Yes; ComponentLink1URL: https://datasheet.ciiva.com:443/pdfs/VipMasterIC/IC/SEIE/SEIE-S-A0009541969/SEIE-S-A0009541969-1.pdf?src-supplier=IHS+Markit; ComponentLink1Description: https://datasheet.ciiva.com:443/pdfs/VipMasterIC/IC/SEIE/SEIE-S-A0009541969/SEIE-S-A0009541969-1.pdf?src-supplier=IHS+Markit; ComponentLink2URL: http://components.arrow.com/part/dataview/43747082S6756917N1174?src-supplier=Arrow+Electronics; ComponentLink2Description: http://components.arrow.com/part/dataview/43747082S6756917N1174?src-supplier=Arrow+Electronics; ComponentLink3URL: https://www.seielect.com/catalog/SEI-RMCF_RMCP.pdf?src-supplier=Avnet; ComponentLink3Description: https://www.seielect.com/catalog/SEI-RMCF_RMCP.pdf?src-supplier=Avnet; ComponentLink4URL: http://www.seielect.com/catalog/sei-rmc.pdf?src-supplier=Future+Electronics; ComponentLink4Description: http://www.seielect.com/catalog/sei-rmc.pdf?src-supplier=Future+Electronics; ComponentLink5URL: https://www.verical.com/server-webapp/html/getDatasheet?partID=360913&src-supplier=Verical; ComponentLink5Description: https://www.verical.com/server-webapp/html/getDatasheet?partID=360913&src-supplier=Verical; ComponentLink6URL: https://www.seielect.com/catalog/sei-rmcf_rmcp.pdf?src-supplier=Digi-Key; ComponentLink6Description: https://www.seielect.com/catalog/sei-rmcf_rmcp.pdf?src-supplier=Digi-Key
footprint FP-RMCF0603-IPC_C
pins: 1, 2

## RMCF0603FT13K3
designator R?, comment value 13.3kR  (hidden comment: RES 13.3K OHM 1% 1/10W 0603)
Manufacturer: Stackpole Electronics; Manufacturer Part Number: RMCF0603FT13K3; Power: 100mW; Rated Temperature: 70°C; Temperature Coefficient: 100ppm/°C; Working Voltage: 75V; Package Height: 0.45mm; Package Length: 1.55mm; Package Width: 0.8mm; Reference Standard: AEC-Q200; Supplier: Digi-Key; Supplier Part Number: RMCF0603FT13K3CT-ND; RoHS: Yes; Category: Chip SMD Resistors; Stock: 235478; Pricing: 1=0.1, 10=0.015, 50=0.009, 100=0.0075, 500=0.00498, 1000=0.00425 (USD); Mounting Technology: Surface Mount; Pins: 2; Package Shape: Rectangular; Case/Package: 0603; Terminal Finish: Nickel; Min Operating Temperature: -55°C; Max Operating Temperature: 155°C; Tolerance: 1%; JESD-609 Code: e3; Resistor Type: FIXED RESISTOR; Construction: Rectangular; Package Style: SMTMeter; Packaging: Tape and Reel; Technology: METAL GLAZE/THICK FILM; Termination: Wraparound; Reach SVHC Compliant: Yes; RoHS Compliant: Yes; ComponentLink1URL: https://datasheet.ciiva.com:443/pdfs/VipMasterIC/IC/SEIE/SEIE-S-A0009541969/SEIE-S-A0009541969-1.pdf?src-supplier=IHS+Markit; ComponentLink1Description: https://datasheet.ciiva.com:443/pdfs/VipMasterIC/IC/SEIE/SEIE-S-A0009541969/SEIE-S-A0009541969-1.pdf?src-supplier=IHS+Markit; ComponentLink2URL: http://components.arrow.com/part/dataview/44987917S6756919N1174?src-supplier=Arrow+Electronics; ComponentLink2Description: http://components.arrow.com/part/dataview/44987917S6756919N1174?src-supplier=Arrow+Electronics; ComponentLink3URL: https://www.seielect.com/catalog/SEI-Packaging.pdf?src-supplier=Digi-Key; ComponentLink3Description: https://www.seielect.com/catalog/SEI-Packaging.pdf?src-supplier=Digi-Key; ComponentLink4URL: https://www.seielect.com/catalog/SEI-RMCF_RMCP.pdf?src-supplier=Avnet; ComponentLink4Description: https://www.seielect.com/catalog/SEI-RMCF_RMCP.pdf?src-supplier=Avnet
footprint FP-RMCF0603-IPC_C
pins: 1, 2

## RMCF0603FT49K9
designator R?, comment value 49.9kR  (hidden comment: RES 49.9K OHM 1% 1/10W 0603)
RES 49.9K OHM 1% 1/10W 0603, Thick Film; Manufacturer: Stackpole Electronics; Manufacturer Part Number: RMCF0603FT49K9; Power: 100mW; Rated Temperature: 70°C; Temperature Coefficient: 100ppm/°C; Working Voltage: 75V; Package Height: 0.45mm; Package Length: 1.55mm; Package Width: 0.8mm; Reference Standard: AEC-Q200; Supplier: Digi-Key; Supplier Part Number: RMCF0603FT49K9CT-ND; RoHS: Yes; Category: Chip SMD Resistors; Stock: 1459059; Pricing: 1=0.1, 10=0.015, 50=0.009, 100=0.0075, 500=0.00498, 1000=0.00425 (USD); Mounting Technology: Surface Mount; Pins: 2; Package Shape: Rectangular; Case/Package: 0603; Terminal Finish: Nickel; Min Operating Temperature: -55°C; Max Operating Temperature: 155°C; Tolerance: 1%; JESD-609 Code: e3; Resistor Type: FIXED RESISTOR; Construction: Rectangular; Package Style: SMTMeter; Packaging: Tape and Reel; Technology: METAL GLAZE/THICK FILM; Termination: Wraparound; Reach SVHC Compliant: Yes; RoHS Compliant: Yes; ComponentLink1URL: https://datasheet.ciiva.com:443/pdfs/VipMasterIC/IC/SEIE/SEIE-S-A0009541969/SEIE-S-A0009541969-1.pdf?src-supplier=IHS+Markit; ComponentLink1Description: https://datasheet.ciiva.com:443/pdfs/VipMasterIC/IC/SEIE/SEIE-S-A0009541969/SEIE-S-A0009541969-1.pdf?src-supplier=IHS+Markit; ComponentLink2URL: https://datasheet.ciiva.com/15193/getdatasheetpartid-363153-15193484.pdf?src-supplier=Verical; ComponentLink2Description: https://datasheet.ciiva.com/15193/getdatasheetpartid-363153-15193484.pdf?src-supplier=Verical
footprint FP-RMCF0603-IPC_C
pins: 1, 2

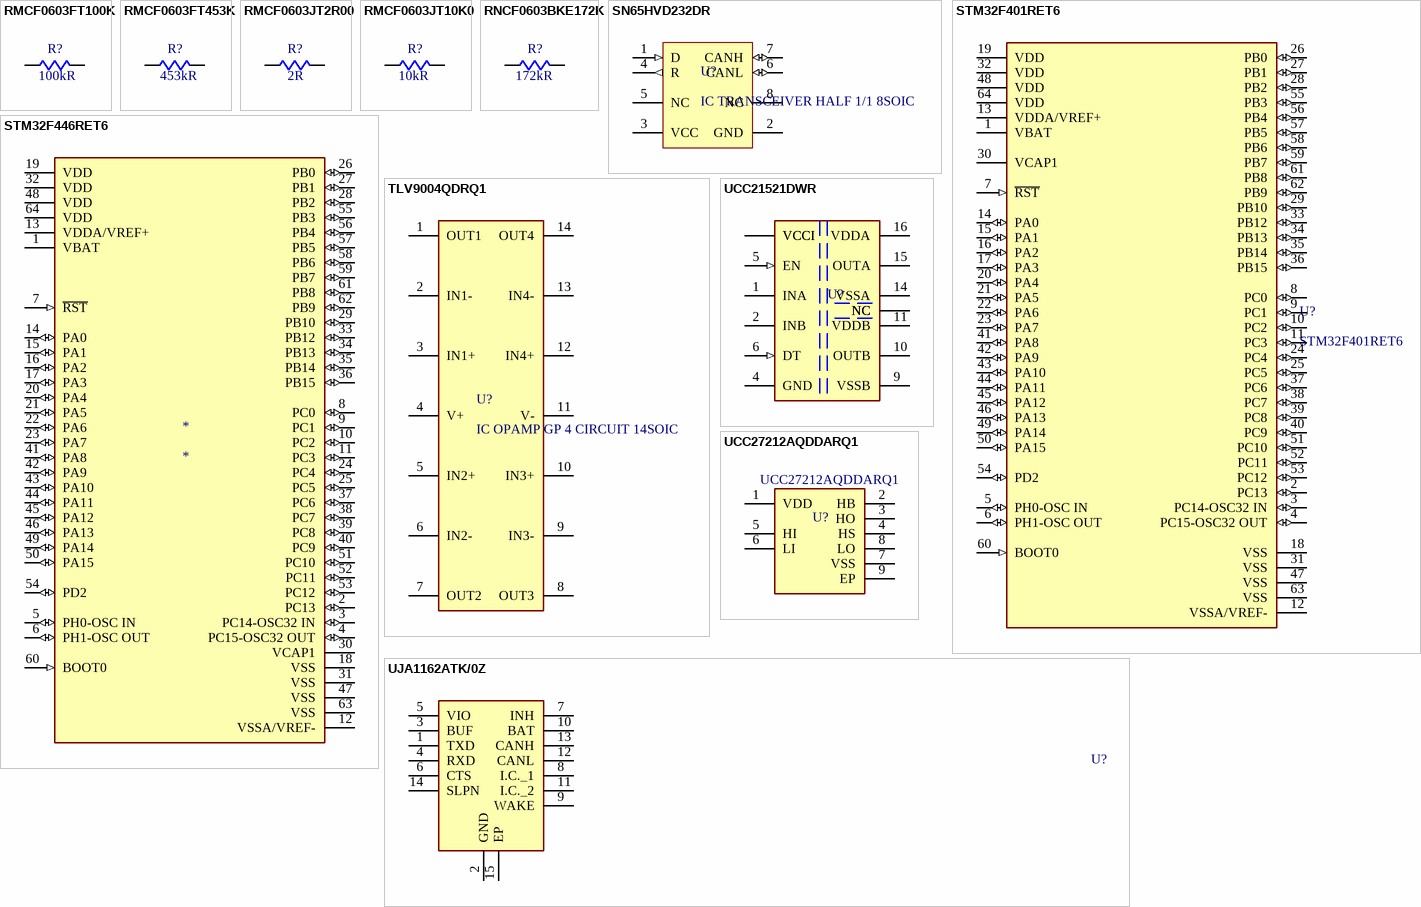
[diagram p2: symbols RMCF0603FT100K to UJA1162ATK/0Z]

## RMCF0603FT100K
designator R?, comment value 100kR  (hidden comment: RES 100K OHM 1% 1/10W 0603)
Manufacturer: Stackpole Electronics; Manufacturer Part Number: RMCF0603FT100K; Power: 100mW; Rated Temperature: 70°C; Temperature Coefficient: 100ppm/°C; Working Voltage: 75V; Package Height: 0.45mm; Package Length: 1.55mm; Package Width: 0.8mm; Reference Standard: AEC-Q200; Supplier: Digi-Key; Supplier Part Number: RMCF0603FT100KCT-ND; RoHS: Yes; Category: Chip SMD Resistors; Stock: 5870957; Pricing: 1=0.1, 10=0.015, 50=0.009, 100=0.0075, 500=0.00498, 1000=0.00425 (USD); Mounting Technology: Surface Mount; Pins: 2; Package Shape: Rectangular; Case/Package: 0603; Terminal Finish: Nickel; Min Operating Temperature: -55°C; Max Operating Temperature: 155°C; Tolerance: 1%; JESD-609 Code: e3; Resistor Type: FIXED RESISTOR; Construction: Rectangular; Package Style: SMTMeter; Packaging: Tape and Reel; Technology: METAL GLAZE/THICK FILM; Termination: Wraparound; Reach SVHC Compliant: Yes; RoHS Compliant: Yes; ComponentLink1URL: https://datasheet.ciiva.com:443/pdfs/VipMasterIC/IC/SEIE/SEIE-S-A0009541969/SEIE-S-A0009541969-1.pdf?src-supplier=IHS+Markit; ComponentLink1Description: https://datasheet.ciiva.com:443/pdfs/VipMasterIC/IC/SEIE/SEIE-S-A0009541969/SEIE-S-A0009541969-1.pdf?src-supplier=IHS+Markit; ComponentLink2URL: https://datasheet.ciiva.com/15193/getdatasheetpartid-362597-15193437.pdf?src-supplier=Verical; ComponentLink2Description: https://datasheet.ciiva.com/15193/getdatasheetpartid-362597-15193437.pdf?src-supplier=Verical
footprint FP-RMCF0603-IPC_C
pins: 1, 2

## RMCF0603FT453K
designator R?, comment value 453kR  (hidden comment: RES 453K OHM 1% 1/10W 0603)
RES 453K OHM 1% 1/10W 0603, Thick Film; Manufacturer: Stackpole Electronics; Manufacturer Part Number: RMCF0603FT453K; Power: 100mW; Rated Temperature: 70°C; Temperature Coefficient: 100ppm/°C; Working Voltage: 75V; Package Height: 0.45mm; Package Length: 1.55mm; Package Width: 0.8mm; Reference Standard: AEC-Q200; Supplier: Digi-Key; Supplier Part Number: RMCF0603FT453KCT-ND; RoHS: Yes; Category: Chip SMD Resistors; Stock: 185042; Pricing: 1=0.1, 10=0.015, 50=0.009, 100=0.0075, 500=0.00498, 1000=0.00425 (USD); Mounting Technology: Surface Mount; Pins: 2; Package Shape: Rectangular; Case/Package: 0603; Terminal Finish: Nickel; Min Operating Temperature: -55°C; Max Operating Temperature: 155°C; Tolerance: 1%; JESD-609 Code: e3; Resistor Type: FIXED RESISTOR; Construction: Rectangular; Package Style: SMTMeter; Packaging: Tape and Reel; Technology: METAL GLAZE/THICK FILM; Termination: Wraparound; Reach SVHC Compliant: Yes; RoHS Compliant: Yes; ComponentLink1URL: https://datasheet.ciiva.com:443/pdfs/VipMasterIC/IC/SEIE/SEIE-S-A0009541969/SEIE-S-A0009541969-1.pdf?src-supplier=IHS+Markit; ComponentLink1Description: https://datasheet.ciiva.com:443/pdfs/VipMasterIC/IC/SEIE/SEIE-S-A0009541969/SEIE-S-A0009541969-1.pdf?src-supplier=IHS+Markit; ComponentLink2URL: https://www.seielect.com/Catalog/SEI-RMCF_RMCP.pdf?src-supplier=Digi-Key; ComponentLink2Description: https://www.seielect.com/Catalog/SEI-RMCF_RMCP.pdf?src-supplier=Digi-Key; ComponentLink3URL: https://www.seielect.com/catalog/SEI-RMCF_RMCP.pdf?src-supplier=Avnet; ComponentLink3Description: https://www.seielect.com/catalog/SEI-RMCF_RMCP.pdf?src-supplier=Avnet
footprint FP-RMCF0603-IPC_C
pins: 1, 2

## RMCF0603JT2R00
designator R?, comment value 2R  (hidden comment: RES 2 OHM 5% 1/10W 0603)
Manufacturer: Stackpole Electronics; Manufacturer Part Number: RMCF0603JT2R00; Power: 100mW; Rated Temperature: 70°C; Temperature Coefficient: 200ppm/°C; Working Voltage: 75V; Package Height: 0.45mm; Package Length: 1.55mm; Package Width: 0.8mm; Reference Standard: AEC-Q200; Supplier: Digi-Key; Supplier Part Number: RMCF0603JT2R00CT-ND; RoHS: Yes; Category: Chip SMD Resistors; Stock: 118386; Pricing: 1=0.1, 10=0.019, 50=0.0114, 100=0.0094, 500=0.00628, 1000=0.00536 (USD); Mounting Technology: Surface Mount; Pins: 2; Package Shape: Rectangular; Case/Package: 0603; Terminal Finish: Nickel; Min Operating Temperature: -55°C; Max Operating Temperature: 155°C; Tolerance: 5%; JESD-609 Code: e3; Resistor Type: FIXED RESISTOR; Construction: Rectangular; Package Style: SMTMeter; Packaging: Tape and Reel; Technology: METAL GLAZE/THICK FILM; Termination: Wraparound; Reach SVHC Compliant: Yes; RoHS Compliant: Yes; ComponentLink1URL: https://datasheet.ciiva.com:443/pdfs/VipMasterIC/IC/SEIE/SEIE-S-A0009541969/SEIE-S-A0009541969-1.pdf?src-supplier=IHS+Markit; ComponentLink1Description: https://datasheet.ciiva.com:443/pdfs/VipMasterIC/IC/SEIE/SEIE-S-A0009541969/SEIE-S-A0009541969-1.pdf?src-supplier=IHS+Markit; ComponentLink2URL: https://www.seielect.com/Catalog/SEI-RMCF_RMCP.pdf?src-supplier=Digi-Key; ComponentLink2Description: https://www.seielect.com/Catalog/SEI-RMCF_RMCP.pdf?src-supplier=Digi-Key; ComponentLink3URL: https://www.seielect.com/catalog/SEI-Packaging.pdf?src-supplier=Digi-Key; ComponentLink3Description: https://www.seielect.com/catalog/SEI-Packaging.pdf?src-supplier=Digi-Key; ComponentLink4URL: https://www.seielect.com/catalog/SEI-RMCF_RMCP.pdf?src-supplier=Avnet; ComponentLink4Description: https://www.seielect.com/catalog/SEI-RMCF_RMCP.pdf?src-supplier=Avnet
footprint FP-RMCF0603-IPC_C
pins: 1, 2

## RMCF0603JT10K0
designator R?, comment value 10kR  (hidden comment: RES 10K OHM 5% 1/10W 0603)
Manufacturer: Stackpole Electronics; Manufacturer Part Number: RMCF0603JT10K0; Power: 100mW; Rated Temperature: 70°C; Temperature Coefficient: 200ppm/°C; Working Voltage: 75V; Package Height: 0.45mm; Package Length: 1.55mm; Package Width: 0.8mm; Reference Standard: AEC-Q200; Supplier: Digi-Key; Supplier Part Number: RMCF0603JT10K0CT-ND; RoHS: Yes; Category: Chip SMD Resistors; Stock: 18229897; Pricing: 1=0.1, 10=0.021, 50=0.0116, 100=0.0093, 500=0.00594, 1000=0.005 (USD); Mounting Technology: Surface Mount; Pins: 2; Package Shape: Rectangular; Case/Package: 0603; Terminal Finish: Nickel; Min Operating Temperature: -55°C; Max Operating Temperature: 155°C; Tolerance: 5%; JESD-609 Code: e3; Resistor Type: FIXED RESISTOR; Construction: Rectangular; Package Style: SMTMeter; Packaging: Tape and Reel; Technology: METAL GLAZE/THICK FILM; Termination: Wraparound; Reach SVHC Compliant: Yes; RoHS Compliant: Yes; ComponentLink1URL: https://datasheet.ciiva.com:443/pdfs/VipMasterIC/IC/SEIE/SEIE-S-A0009541969/SEIE-S-A0009541969-1.pdf?src-supplier=IHS+Markit; ComponentLink1Description: https://datasheet.ciiva.com:443/pdfs/VipMasterIC/IC/SEIE/SEIE-S-A0009541969/SEIE-S-A0009541969-1.pdf?src-supplier=IHS+Markit; ComponentLink2URL: https://datasheet.ciiva.com/15193/getdatasheetpartid-364254-15193501.pdf?src-supplier=Verical; ComponentLink2Description: https://datasheet.ciiva.com/15193/getdatasheetpartid-364254-15193501.pdf?src-supplier=Verical
footprint FP-RMCF0603-IPC_C
pins: 1, 2

## RNCF0603BKE172K
designator R?, comment value 172kR  (hidden comment: RES 172K OHM 0.1% 1/6W 0603)
Manufacturer: Stackpole Electronics; Manufacturer Part Number: RNCF0603BKE172K; Additional Feature: PRECISION; Power: 166mW; Rated Temperature: 70°C; Temperature Coefficient: 25ppm/°C; Working Voltage: 100V; Package Height: 0.45mm; Package Length: 1.55mm; Package Width: 0.8mm; Reference Standard: AEC-Q200; Supplier: Digi-Key; Supplier Part Number: RNCF0603BKE172KCT-ND; RoHS: Yes; Category: Chip SMD Resistors; Stock: 23414; Pricing: 1=0.49, 10=0.353, 100=0.1413, 500=0.09624 (USD); Mounting Technology: Surface Mount; Pins: 2; Package Shape: Rectangular; Case/Package: 0603; Terminal Finish: Nickel; Min Operating Temperature: -55°C; Max Operating Temperature: 155°C; Tolerance: 0.1%; JESD-609 Code: e3; Resistor Type: FIXED RESISTOR; Construction: Rectangular; Package Style: SMTMeter; Packaging: Tape and Reel; Technology: THIN FILM; Termination: Wraparound; Reach SVHC Compliant: Yes; RoHS Compliant: Yes; ComponentLink1URL: https://datasheet.ciiva.com:443/pdfs/VipMasterIC/IC/SEIE/SEIE-S-A0009648208/SEIE-S-A0009648208-1.pdf?src-supplier=IHS+Markit; ComponentLink1Description: https://datasheet.ciiva.com:443/pdfs/VipMasterIC/IC/SEIE/SEIE-S-A0009648208/SEIE-S-A0009648208-1.pdf?src-supplier=IHS+Markit; ComponentLink2URL: https://www.seielect.com/catalog/SEI-Packaging.pdf?src-supplier=Digi-Key; ComponentLink2Description: https://www.seielect.com/catalog/SEI-Packaging.pdf?src-supplier=Digi-Key; ComponentLink3URL: https://www.seielect.com/Catalog/SEI-RNCF.pdf?src-supplier=Digi-Key; ComponentLink3Description: https://www.seielect.com/Catalog/SEI-RNCF.pdf?src-supplier=Digi-Key
footprint FP-RMCF0603-IPC_C
pins: 1, 2

## SN65HVD232DR
designator U?, comment IC TRANSCEIVER HALF 1/1 8SOIC
Manufacturer: Texas Instruments; Manufacturer Part Number: SN65HVD232DR; Description: Interface Circuit, 1-Trnsvr, BICMOS, PDSO8; Package Body Material: Plastic; Data Rate: 1000Mbps; Channels: 1; Package Equivalence Code: SOP8,.25; Power Supplies: 3.3V; Max Supply Current: 17uA; Telecom IC Type: INTERFACE CIRCUIT; Qualification Status: Not Qualified; Supplier: Digi-Key; Supplier Part Number: 296-26344-1-ND; RoHS: Yes; Category: Interface ICs; Stock: 38986; Pricing: 1=2.55, 10=2.29, 25=2.1604, 100=1.8407, 250=1.72832, 500=1.5123, 1000=1.25305 (USD); Case/Package: SOP; Pins: 8; Package Shape: Rectangular; Terminal Finish: Nickel; Min Operating Temperature: -40°C; Max Operating Temperature: 85°C; JESD-609 Code: e4; JESD-30 Code: R-PDSO-G8; Moisture Sensitivity Level: 1; Number of Transceivers: 1; Package Style: SMALL OUTLINEMeter; Peak Reflow Temperature (Cel): 260°C; Nominal Supply Voltage: 3.3V; Surface Mount: Yes; Technology: BICMOS; Terminal Form: Gull Wing; Terminal Position: DUAL; Length: 4.9mm; Width: 3.9mm; Height - Seated (Max): 1.75mm; Terminal Pitch: 1.27mm; Temperature Grade: INDUSTRIAL; Reach SVHC Compliant: Yes; RoHS Compliant: Yes; ComponentLink1URL: https://www.ti.com:443/lit/ds/symlink/sn65hvd230.pdf?src-supplier=IHS+Markit; ComponentLink1Description: https://www.ti.com:443/lit/ds/symlink/sn65hvd230.pdf?src-supplier=IHS+Markit; ComponentLink2URL: https://datasheet.ciiva.com/1771/sn65hvd230-1771113.pdf?src-supplier=Digi-Key; ComponentLink2Description: https://datasheet.ciiva.com/1771/sn65hvd230-1771113.pdf?src-supplier=Digi-Key; ComponentLink3URL: https://datasheet.ciiva.com/1771/sn65hvd230-1771112.pdf?src-supplier=Digi-Key; ComponentLink3Description: https://datasheet.ciiva.com/1771/sn65hvd230-1771112.pdf?src-supplier=Digi-Key; ComponentLink4URL: https://datasheet.ciiva.com/1771/sn65hvd230-1771114.pdf?src-supplier=Digi-Key; ComponentLink4Description: https://datasheet.ciiva.com/1771/sn65hvd230-1771114.pdf?src-supplier=Digi-Key; ComponentLink5URL: https://datasheet.ciiva.com/15149/getdatasheetpartid-107534-15149958.pdf?src-supplier=Verical; ComponentLink5Description: https://datasheet.ciiva.com/15149/getdatasheetpartid-107534-15149958.pdf?src-supplier=Verical
footprint D0008A_M (SOIC, 8-Leads, Body 5x4mm, Pitch 1.27mm, IPC Low Density)
pins: 1 D (in) "Driver input", 2 GND (power) "Ground", 3 VCC (power) "Supply voltage", 4 R (out) "Receiver output", 5 NC "No connection", 6 CANL (io) "Low bus output", 7 CANH (io) "High bus outpu", 8 NC "No connection"